# Altium footprint library BioSens.PcbLib: 26 footprints (part 1 of 2)
Each footprint in its own frame and in the unit in brackets; x right, y up, seen from the top. Pads: shape width x height; smd on the part's side, far side on the other; paste and mask are expansions set on the pad; w line width, h text height; cw(c..) or ccw(c..) is an arc to the next point about the centre after c.
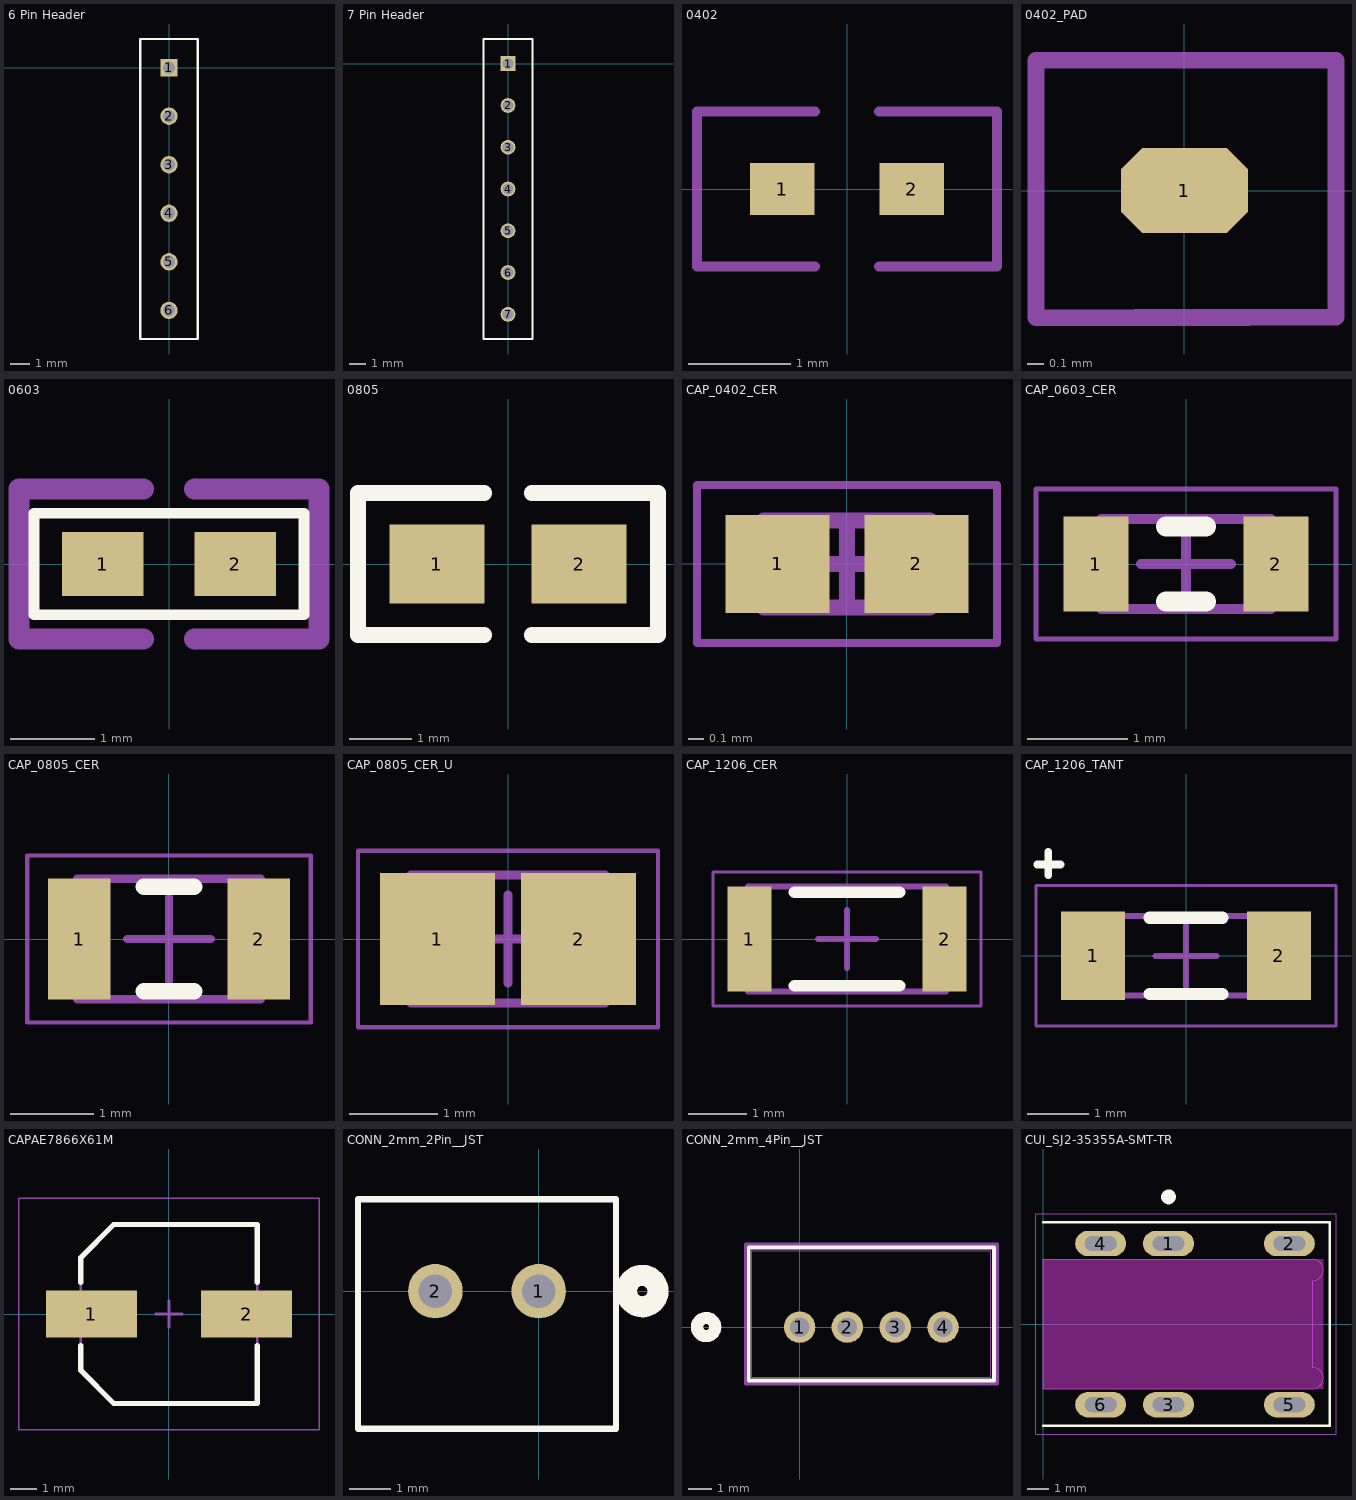
[diagram p0: the footprints below, top view; thin cyan lines are the x and y axes]

## 6 Pin Header [mm] "Biosignals output to NRF Digital IN"
pads (6):
  rect 0.904x0.904 hole 0.65: 1(0,0)
  round 0.904 hole 0.65: 2(0,-2.54) 3(0,-5.08) 4(0,-7.62) 5(0,-10.16) 6(0,-12.7)
Top Overlay:
  lines w0.127: -1.5,-14.2 1.5,-14.2 1.5,1.5 -1.5,1.5 -1.5,-14.2
Mechanical 15:
  text "'.Designator'1" at 2.1,-0.95 h1.2

## 7 Pin Header [mm] "Biosignals output to NRF Digital IN"
pads (7):
  rect 0.904x0.904 hole 0.65: 1(0,0)
  round 0.904 hole 0.65: 2(0,-2.54) 3(0,-5.08) 4(0,-7.62) 5(0,-10.16) 6(0,-12.7) 7(0,-15.24)
Top Overlay:
  lines w0.127: -1.5,-16.74 -1.5,1.5 1.5,1.5 1.5,-16.74 -1.5,-16.74
Mechanical 13:
  text "'.Designator'1" at 2.1,-0.95 h1.2

## 0402 [mil]
pads (2):
  rect 25x20 smd: 1(-25,0) 2(25,0)
Mechanical 15:
  lines w3.94: -12.5,-30 -58,-30 -58,30 -12.5,30 ; 12.5,-30 58,-30 58,30 12.5,30

## 0402_PAD [mil]
pads (1):
  oct 30x20 smd paste-2.5 mask+1: 1(0,0)
Mechanical 15:
  lines w3.94: -26.83,30.71 35.77,30.71 35.77,-29.92 -11.48,-29.92 ; 15,-30 -35.04,-30 -35.04,30.71 15,30.71

## 0603 [mil]
pads (2):
  rect 38x30 smd mask+2.5: 1(-31,0) 2(31,0)
Top Overlay:
  lines w5: -62.99,-23.62 62.99,-23.62 62.99,23.62 -62.99,23.62 -62.99,-23.62
Mechanical 15:
  lines w10: -12,-35 -70,-35 -70,35 -12,35 ; 12,-35 70,-35 70,35 12,35

## 0805 [mil]
pads (2):
  rect 60x50 smd: 1(-45,0) 2(45,0)
Top Overlay:
  lines w10: -15,-45 -95,-45 -95,45 -15,45 ; 15,-45 95,-45 95,45 15,45

## CAP_0402_CER [mm] "Ceremic Cap 0402"
height 0.55
pads (2):
  rect 0.66x0.62 smd: 1(-0.44,0) 2(0.44,0)
Mechanical 15:
  lines w0.05: -0.95,-0.5 -0.95,0.5 0.95,0.5 0.95,-0.5 -0.95,-0.5
  lines w0.1: -0.275,0 0.275,0 ; 0,-0.275 0,0.275 ; -0.525,-0.275 -0.525,0.275 0.525,0.275 0.525,-0.275 -0.525,-0.275
3D body: height 0.55, standoff 0, extent -0.295,-0.275 0.295,0.275
3D body: height 0.55, standoff 0, extent -0.525,-0.275 -0.295,0.275
3D body: height 0.55, standoff 0, extent 0.295,-0.275 0.525,0.275

## CAP_0603_CER [mm] "Ceremic Cap 0603"
height 0.9
pads (2):
  rect 0.65x0.95 smd: 1(-0.9,0) 2(0.9,0)
Top Overlay:
  lines w0.2: -0.2,-0.375 0.2,-0.375 ; -0.2,0.375 0.2,0.375
Top Courtyard:
  lines w0.05: -1.5,-0.75 -1.5,0.75 1.5,0.75 1.5,-0.75 -1.5,-0.75
  lines w0.1: -0.45,0 0.45,0 ; 0,-0.45 0,0.45
Top Assembly:
  lines w0.1: -0.85,-0.45 -0.85,0.45 0.85,0.45 0.85,-0.45 -0.85,-0.45
3D body: height 0.9, standoff 0, extent -0.65,-0.45 0.65,0.45
3D body: height 0.9, standoff 0, extent -0.85,-0.45 -0.65,0.45
3D body: height 0.9, standoff 0, extent 0.65,-0.45 0.85,0.45

## CAP_0805_CER [mm] "Ceremic Cap 0805"
height 1.45
pads (2):
  rect 0.75x1.45 smd: 1(-1.075,0) 2(1.075,0)
Top Overlay:
  lines w0.2: -0.3,-0.625 0.3,-0.625 ; -0.3,0.625 0.3,0.625
Mechanical 15:
  lines w0.05: -1.7,-1 1.7,-1 1.7,1 -1.7,1 -1.7,-1
  lines w0.1: -0.5,0 0.5,0 ; 0,-0.5 0,0.5 ; -1.1,-0.725 1.1,-0.725 1.1,0.725 -1.1,0.725 -1.1,-0.725
3D body: height 1.45, standoff 0, extent 0.9,-0.725 1.1,0.725
3D body: height 1.45, standoff 0, extent -1.1,-0.725 -0.9,0.725
3D body: height 1.45, standoff 0, extent -0.9,-0.725 0.9,0.725

## CAP_0805_CER_U [mm]
height 1.4
pads (2):
  rect 1.3x1.5 smd: 1(-0.8,0) 2(0.8,0)
Top Courtyard:
  lines w0.05: -1.7,-1 -1.7,1 1.7,1 1.7,-1 -1.7,-1
  lines w0.1: -0.5,0 0.5,0 ; 0,-0.5 0,0.5
Top Assembly:
  lines w0.1: -1.1,-0.725 -1.1,0.725 1.1,0.725 1.1,-0.725 -1.1,-0.725
3D body: height 1.4, standoff 0, extent -0.6,-0.725 0.6,0.725
3D body: height 1.4, standoff 0, extent -1.1,-0.725 -0.6,0.725
3D body: height 1.4, standoff 0, extent 0.6,-0.725 1.1,0.725

## CAP_1206_CER [mm] "Ceremic Cap 1206"
height 1.8
pads (2):
  rect 0.75x1.8 smd: 1(-1.675,0) 2(1.675,0)
Top Overlay:
  lines w0.2: -0.9,-0.8 0.9,-0.8 ; -0.9,0.8 0.9,0.8
Top Courtyard:
  lines w0.05: -2.3,-1.15 -2.3,1.15 2.3,1.15 2.3,-1.15 -2.3,-1.15
  lines w0.1: -0.5,0 0.5,0 ; 0,-0.5 0,0.5
Top Assembly:
  lines w0.1: -1.7,-0.9 -1.7,0.9 1.7,0.9 1.7,-0.9 -1.7,-0.9
3D body: height 1.8, standoff 0, extent -1.5,-0.9 1.5,0.9
3D body: height 1.8, standoff 0, extent -1.7,-0.9 -1.5,0.9
3D body: height 1.8, standoff 0, extent 1.5,-0.9 1.7,0.9

## CAP_1206_TANT [mm] "Tantalum Cap 1206"
height 1.8
pads (2):
  rect 1.05x1.45 smd: 1(-1.525,0) 2(1.525,0)
Top Overlay:
  lines w0.127: -2.438,1.499 -2.057,1.499 ; -2.261,1.321 -2.261,1.702
  lines w0.2: -0.6,-0.625 0.6,-0.625 ; -0.6,0.625 0.6,0.625
Mechanical 15:
  lines w0.05: -2.46,-1.15 2.46,-1.15 2.46,1.15 -2.46,1.15 -2.46,-1.15
  lines w0.1: -0.5,0 0.5,0 ; 0,-0.5 0,0.5 ; -1.7,-0.65 1.7,-0.65 1.7,0.65 -1.7,0.65 -1.7,-0.65
3D body: height 1.8, standoff 0, extent 0.95,-0.65 1.7,0.65
3D body: height 1.8, standoff 0, extent -1.7,-0.65 -0.95,0.65
3D body: height 1.8, standoff 0, extent -0.95,-0.65 0.95,0.65

## CAPAE7866X61M [mm] "Aluminum Electrolytic Capacitor, Body 6.35x6.60x6.10mm, IPC Low Density"
height 6.1
pads (2):
  rect 3.45x1.8 smd: 1(-2.95,0) 2(2.95,0)
Top Overlay:
  lines w0.2: -3.35,-1.2 -3.35,-2.15 -2.1,-3.4 3.35,-3.4 3.35,-1.2 ; -3.35,1.2 -3.35,2.15 -2.1,3.4 3.35,3.4 3.35,1.2
Top Courtyard:
  lines w0.05: -5.7,-4.4 -5.7,4.4 5.7,4.4 5.7,-4.4 -5.7,-4.4
  lines w0.1: -0.5,0 0.5,0 ; 0,-0.5 0,0.5
Top Assembly:
  lines w0.1: -3.35,-2.15 -2.1,-3.4 3.35,-3.4 3.35,3.4 -2.1,3.4 -3.35,2.15 -3.35,-2.15
3D body: height 2.04, standoff 0, extent -3.35,-3.4 3.35,3.4
3D body: height 6.1, standoff 0, extent -3.4,-3.4 3.4,3.4

## CONN_2mm_2Pin__JST [mil]
pads (2):
  round 52 hole 32 mask+0: 1(0,0) 2(-98.43,0)
Top Overlay:
  circle w20: c98.79,0 r15
  lines w6: -172.21,-131.32 -172.21,87.68 73.79,87.68 73.79,-131.32 -172.21,-131.32
Bottom Overlay:
  circle w20: c98.79,0 r15
Mechanical 15:
  text "'.Designator'1" at -228.35,112.2 h47.24

## CONN_2mm_4Pin__JST [mil]
pads (4):
  round 52 hole 32 mask+0: 1(0,0) 2(78.74,0) 3(157.48,0) 4(236.22,0)
Top Overlay:
  circle w20: c-153.89,0 r15
  lines w6: -83.89,-88.02 -83.89,130.98 320.11,130.98 320.11,-88.02 -83.89,-88.02
Bottom Overlay:
  circle w20: c-153.89,0 r15
Mechanical 15:
  lines w1: -78.89,-83.02 -78.89,125.98 315.11,125.98 315.11,-83.02 -78.89,-83.02
  lines w6: -88.89,-93.02 325.11,-93.02 325.11,135.98 -88.89,135.98 -88.89,-93.02
  text "'.Designator'1" at -159.45,53.14 h47.24

## CUI_SJ2-35355A-SMT-TR [mm]
pads (6):
  oval 2.4x1.2 hole 0.7 slot 1.5 at 0 deg: 1(5.9,3.8) 2(11.6,3.8) 3(5.9,-3.8) 4(2.7,3.8) 5(11.6,-3.8) 6(2.7,-3.8)
Top Overlay:
  circle w0.4: c5.9,6 r0.15
  lines w0.127: 0,-4.8 13.5,-4.8 13.5,4.8 0,4.8
Keep-Out Layer:
  region: 13.2,-3.054 0,-3.054 0,3.05 13.2,3.05
  region: 13.2,-3.054 0,-3.054 0,3.05 13.2,3.05
  region: 13.2,-3.051 0,-3.051 0,3.05 13.2,3.05
Mechanical 1:
  lines w0: 0,-3.05 0,3.05 12.7,3.05 cw(c12.7,2.55) 12.7,2.05 12.7,-2.05 cw(c12.7,-2.55) 12.7,-3.05 0,-3.05
Mechanical 15:
  lines w0.05: -0.35,-5.2 -0.35,5.2 13.8,5.2 13.8,-5.2 -0.35,-5.2